# EAGLE library part 2ПЕ102 (library transistors-field-effect)
АЕЯР.432140.686 ТУ Транзисторная сборка с 2 Р-MOSFET Тип UСИ max, В IС max, А RСИ откр, Ом UПОР, В Структура Pmax, Вт 2П7241ГС9 -20 -4,7 0,030 |-1,0| ÷ |-2,5| Р 2 2П7241АС9 -30 -8 0,035 2П7241БС9 -60 -3,5 0,250 2П7241ВС9 -100 -1,5 0,500 2П7240ГС9 20 8,7 0,022 1,5 ÷ 2,5 N 2П7240АС9 30 10 0,020 2П7240БС9 60 5 0,060 2П7240ВС9 100 3,5 0,085 2ПЕ102АС9 -100 -1,5 0,48 |-2,5| ÷ |-5,0| P 2ПЕ101АС9 100 2,1 0,21 1,5 ÷ 6,0 N Производитель: АО "ВЗПП" г. Воронеж
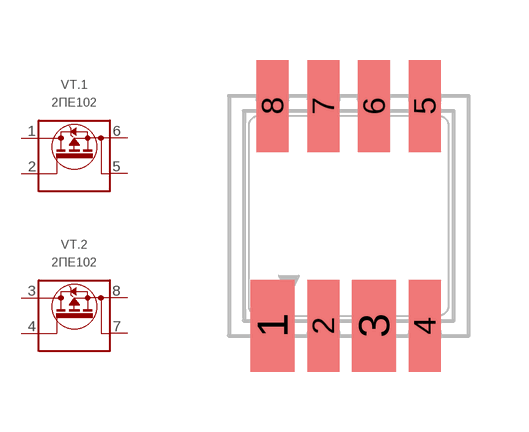
[diagram p0: symbol with the pads of МК5205.8-2; footprint МК5205.8-2]

Designator prefix VT; gates .1=P-MOSFET_8PIN .2=P-MOSFET_8PIN

## 2ПЕ102АС9  [МК5205.8-2]
1  .1:S  pas
2  .1:G  pas
3  .2:S  pas
4  .2:G  pas
5  .1:D  pas
6  .1:D  pas
7  .2:D  pas
8  .2:D  pas

## Footprint МК5205.8-2 (pad centres in mm)
smd 1.1 x 2.3: 1 -1.905,-2.75; 3 0.635,-2.75
smd 0.8 x 2.3: 2 -0.635,-2.75; 4 1.905,-2.75; 5 1.905,2.75; 6 0.635,2.75; 7 -0.635,2.75; 8 -1.905,2.75